# Altium schematic symbol library Diodes.SchLib: 10 symbols
Pins are listed as number, name and electrical type; pins without a type are passive.

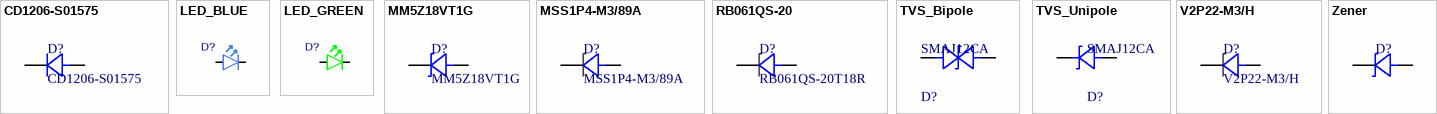
[diagram p0: symbols CD1206-S01575 to Zener]

## CD1206-S01575
designator D?
Full Part Number: CD1206-S01575; Value: CD1206-S01575
footprint CD1206-S01575
pins: 1, 2

## LED_BLUE
designator D?, comment BLU  (value not drawn)
CHIP LED BLUE; Part Number: LG L29K Smartled Green; Manufacturer: Multicomp; Manufacturer Part Number: LG L29K-G2J1-24-Z; Value: L0603G; Note: 2,24..5.6 mcd, Vfmin=1.7V; Artikkelnr Noca: N.A.; Datasheet: http://www.osram-os.com/Graphics/XPic2/00077107_0.pdf; Footprint Doc: 0603; LatestRevisionDate: 2014-10-28; Pin Count: 2; Publisher: Nordic Semiconductor; Published: 2014-10-28; Supplier: Digi-Key; Supplier part number: 475-2709-1-ND; 2nd source Supplier: *; 2nd source part number: *; Artikkelnr Simpro: N.A.
footprint LED-0603-BLUE
pins: A, K

## LED_GREEN
designator D?, comment GRN  (value not drawn)
CHIP LED GREEN; Part Number: LG L29K Smartled Green; Manufacturer: Multicomp; Manufacturer Part Number: LG L29K-G2J1-24-Z; Value: L0603G; Note: 2,24..5.6 mcd, Vfmin=1.7V; Artikkelnr Noca: N.A.; Datasheet: http://www.osram-os.com/Graphics/XPic2/00077107_0.pdf; Footprint Doc: 0603; LatestRevisionDate: 2014-10-28; Pin Count: 2; Publisher: Nordic Semiconductor; Published: 2014-10-28; Supplier: Digi-Key; Supplier part number: 475-2709-1-ND; 2nd source Supplier: *; 2nd source part number: *; Artikkelnr Simpro: N.A.
footprint LED-0603-GREEN
pins: A, K

## MM5Z18VT1G
designator D?
Zener Diodes 18V 200mW; Mfr_Name: onsemi; Type: DEV; Copyright: Copyright (C) 2022 Ultra Librarian. All rights reserved.; Full Part Number: MM5Z18VT1G; RefDes: RefDes; Value: MM5Z18VT1G
footprint SOD-123 (SOD, 2-Leads, Body 1.55x3.70mm, IPC Medium Density)
footprint SOD523F (SODFL, 2-Leads, Body 0.80x1.60mm, IPC Medium Density)
pins: 1, 2

## MSS1P4-M3/89A
designator D?
Full Part Number: MSS1P4-M3/89A; Value: MSS1P4-M3/89A
footprint SOD523F (SODFL, 2-Leads, Body 0.80x1.60mm, IPC Medium Density)
footprint DO-219AD MicroSMP (Molded Diode, 2-Leads, Body 2.70x1.40mm, IPC Medium Density)
pins: 1, 2

## RB061QS-20
designator D?, comment RB061QS-20T18R
Full Part Number: RB061QS-20T18R; Value: RB061QS-20T18R
footprint RB061QS-20 (Chip Capacitor, 2-Leads, Body 1.02x0.51mm, IPC High Density)
pins: 1, 2

## TVS_Bipole
designator D?, comment SMAJ12CA
TVS DIODE 12V 19.9V DO214AC; Manufacturer: Littelfuse Inc; Peak Pulse Power: 400W; Direction: Bidirectional; Breakdown Voltage: 13.3V; Peak Pulse Current: 20.1A; Number Of Channels: 1; Max Junction Temp: +150°C; Digikey Description: TVS DIODE 12V 19.9V DO214AC; Lead Free: Yes; Temperature Range High: +150°C; Clamping Voltage: 19.9V; Mouser Description: TVS Diodes - Transient Voltage Suppressors 12Vr 400W 20.1A 5% BiDirectional; Reverse Standoff Voltage: 12V; Device Class L3: unset; ComponentLink2URL: https://www.littelfuse.com/~/media/electronics/datasheets/tvs_diodes/littelfuse_tvs_diode_smaj_datasheet.pdf.pdf; Manufacturer Part Number: SMAJ12CA; Category: Diode; Device Class L1: Circuit Protection; Package: SMAJ-CA; Octopart: https://octopart.com/smaj12ca-littelfuse-349824; Temperature: -65°C to +150°C; Height: 2.29mm; Temperature Range Low: -65°C; RoHS: TRUE; Device Class L2: TVS Diodes; ComponentLink2Description: Datasheet; Automotive: No
footprint SMAJ12CA
pins: 1, 2

## TVS_Unipole
designator D?, comment SMAJ12CA
TVS DIODE 12V 19.9V DO214AC; Manufacturer: Littelfuse Inc; Peak Pulse Power: 400W; Direction: Bidirectional; Breakdown Voltage: 13.3V; Peak Pulse Current: 20.1A; Number Of Channels: 1; Max Junction Temp: +150°C; Digikey Description: TVS DIODE 12V 19.9V DO214AC; Lead Free: Yes; Temperature Range High: +150°C; Clamping Voltage: 19.9V; Mouser Description: TVS Diodes - Transient Voltage Suppressors 12Vr 400W 20.1A 5% BiDirectional; Reverse Standoff Voltage: 12V; Device Class L3: unset; ComponentLink2URL: https://www.littelfuse.com/~/media/electronics/datasheets/tvs_diodes/littelfuse_tvs_diode_smaj_datasheet.pdf.pdf; Manufacturer Part Number: SMAJ12CA; Category: Diode; Device Class L1: Circuit Protection; Package: SMAJ-CA; Octopart: https://octopart.com/smaj12ca-littelfuse-349824; Temperature: -65°C to +150°C; Height: 2.29mm; Temperature Range Low: -65°C; RoHS: TRUE; Device Class L2: TVS Diodes; ComponentLink2Description: Datasheet; Automotive: No
footprint SMAJ12CA
footprint DO214AC SMA (Molded Diode, 2-Leads, Body 4.30x2.60mm, IPC Medium Density)
pins: 1, 2

## V2P22-M3/H
designator D?
Schottky Diodes & Rectifiers 200V 2A TMBS MicroSMP (DO-219AD); Full Part Number: V2P22-M3/H; Value: V2P22-M3/H
footprint SOD523F (SODFL, 2-Leads, Body 0.80x1.60mm, IPC Medium Density)
pins: 1, 2

## Zener
designator D?
No Description Available; Mfr_Name: Diodes Inc; Manufacturer_Part_Number: BZT52C12-13-F; Type: DEV; Copyright: Copyright (C) 2022 Ultra Librarian. All rights reserved.; RefDes: RefDes
footprint SOD-123 (SOD, 2-Leads, Body 1.55x3.70mm, IPC Medium Density)
footprint SOD523F (SODFL, 2-Leads, Body 0.80x1.60mm, IPC Medium Density)
pins: 1, 2